# EAGLE library part LEVELSHIFT_4CH (library quadcopter_comp)
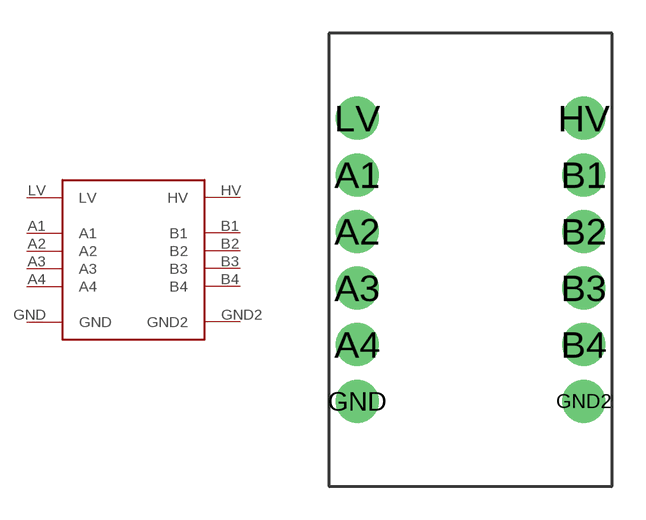
[diagram p7: symbol with the pads of LEVELSHIFT_4CH; footprint LEVELSHIFT_4CH]

Designator prefix -

## LEVELSHIFT_4CH  [LEVELSHIFT_4CH]
A1  A1
A2  A2
A3  A3
A4  A4
B1  B1
B2  B2
B3  B3
B4  B4
GND  GND
GND2  GND2
HV  HV
LV  LV

## Footprint LEVELSHIFT_4CH (pad centres in mm)
drill 1.1 pad 1.93: A1 -5.08,3.81; A2 -5.08,1.27; A3 -5.08,-1.27; A4 -5.08,-3.81; B1 5.08,3.81; B2 5.08,1.27; B3 5.08,-1.27; B4 5.08,-3.81; GND -5.08,-6.35; GND2 5.08,-6.35; HV 5.08,6.35; LV -5.08,6.35